# EAGLE library part LM2825 (library ic)
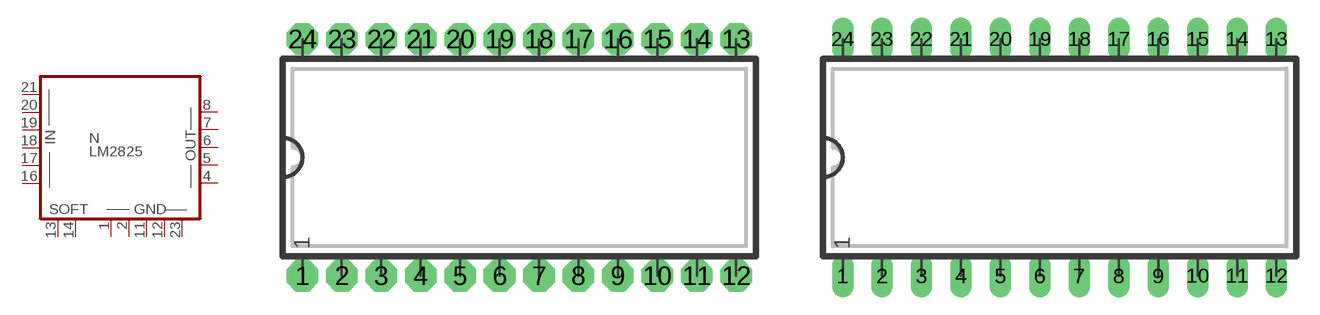
[diagram p24: symbol with the pads of DIP24WN; footprints DIP24WN, DIP24WL]

Designator prefix N

## LM2825N  [DIP24WN]
1  GND  pwr
2  GND  pwr
4  OUT
5  OUT
6  OUT
7  OUT
8  OUT
11  GND  pwr
12  GND  pwr
13  SOFT
14  SOFT
16  IN  pwr
17  IN  pwr
18  IN  pwr
19  IN  pwr
20  IN  pwr
21  IN  pwr
23  GND  pwr

## LM2825  [DIP24WL]
Pads as for DIP24WN

## LM2825L  [DIP24WL]
Pads as for DIP24WN

## LM2825R  [DIP24WR]
Pads as for DIP24WN

## Footprint DIP24WN (pad centres in mm)
DIP-24 Standard IC package, 24 pins
drill 0.813 pad 2.032 octagon: 1 -13.97,-7.62; 2 -11.43,-7.62; 3 -8.89,-7.62; 4 -6.35,-7.62; 5 -3.81,-7.62; 6 -1.27,-7.62; 7 1.27,-7.62; 8 3.81,-7.62; 9 6.35,-7.62; 10 8.89,-7.62; 11 11.43,-7.62; 12 13.97,-7.62; 13 13.97,7.62; 14 11.43,7.62; 15 8.89,7.62; 16 6.35,7.62; 17 3.81,7.62; 18 1.27,7.62; 19 -1.27,7.62; 20 -3.81,7.62; 21 -6.35,7.62; 22 -8.89,7.62; 23 -11.43,7.62; 24 -13.97,7.62

## Footprint DIP24WL (pad centres in mm)
DIP-24, long pads Standard IC package, 24 pins
drill 0.813 pad 1.397 long: 1 -13.97,-7.62; 2 -11.43,-7.62; 3 -8.89,-7.62; 4 -6.35,-7.62; 5 -3.81,-7.62; 6 -1.27,-7.62; 7 1.27,-7.62; 8 3.81,-7.62; 9 6.35,-7.62; 10 8.89,-7.62; 11 11.43,-7.62; 12 13.97,-7.62; 13 13.97,7.62; 14 11.43,7.62; 15 8.89,7.62; 16 6.35,7.62; 17 3.81,7.62; 18 1.27,7.62; 19 -1.27,7.62; 20 -3.81,7.62; 21 -6.35,7.62; 22 -8.89,7.62; 23 -11.43,7.62; 24 -13.97,7.62

## Footprint DIP24WR (pad centres in mm)
DIP-24, reduced pads Standard IC package, 24 pins
drill 0.813 pad 1.397 square: 1 -13.97,-7.62; 2 -11.43,-7.62; 3 -8.89,-7.62; 4 -6.35,-7.62; 5 -3.81,-7.62; 6 -1.27,-7.62; 7 1.27,-7.62; 8 3.81,-7.62; 9 6.35,-7.62; 10 8.89,-7.62; 11 11.43,-7.62; 12 13.97,-7.62; 13 13.97,7.62; 14 11.43,7.62; 15 8.89,7.62; 16 6.35,7.62; 17 3.81,7.62; 18 1.27,7.62; 19 -1.27,7.62; 20 -3.81,7.62; 21 -6.35,7.62; 22 -8.89,7.62; 23 -11.43,7.62; 24 -13.97,7.62